# Altium schematic symbol library MergenElektronik_Relays_PowerRelays.SchLib: 1 symbol
Pins are listed as number, name and electrical type; pins without a type are passive.

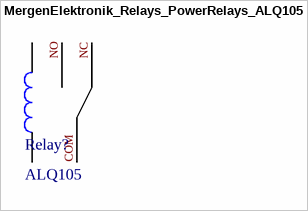
[diagram p0: symbol MergenElektronik_Relays_PowerRelays_ALQ105]

## MergenElektronik_Relays_PowerRelays_ALQ105
designator Relay?, comment ALQ105
Mergen Elektronik - Relays - Power Relays - ALQ105; Manufacturer: Panasonic Electric Works; Current Rating: 5A; Switching Voltage: 250VAC, 30VDC - Max; Digi-Key Number: 255-3565-ND; Manufacturer Number: ALQ105; Model: Power Relays; Mounting Type: THT; Value: ALQ105; Temperature: -40°C up to 85°C; Mouser Number: 769-ALQ105; Farnell Number: 2503675; Supplier 1: Digi-Key; Supplier Part Number 1: 255-3565-ND; Package: ALQ105; Supplier 2: Mouser; Supplier Part Number 2: 769-ALQ105
footprint MergenElektronik_Relays_PowerRelays_ALQ105 (ALQ105)
pins: C1, C2, COM, NC, NO